# Altium schematic symbol library AD5242BRZ100.Schlib: 1 symbol
Pins are listed as number, name and electrical type; pins without a type are passive.

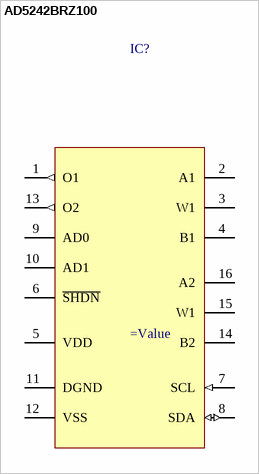
[diagram p0: symbol AD5242BRZ100]

## AD5242BRZ100
designator IC?
=Description
pins: 1 O1 (out), 2 A1, 3 W1, 4 B1, 5 VDD (power), 6 ~{SHDN}, 7 SCL (in), 8 SDA (io), 9 AD0, 10 AD1, 11 DGND (power), 12 VSS (power), 13 O2 (out), 14 B2, 15 W1, 16 A2